# Altium schematic symbol library LM2575.Schlib: 1 symbol
Pins are listed as number, name and electrical type; pins without a type are passive.

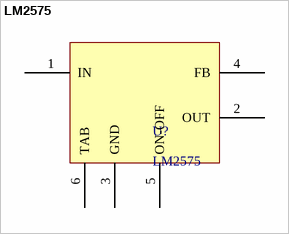
[diagram p0: symbol LM2575]

## LM2575
designator U?
pins: 1 IN, 2 OUT, 3 GND, 4 FB, 5 ON-OFF, 6 TAB